# EAGLE library part ERF8-030-XX.X-X-DV (library con-samtec-er8)
ERF8 Series - Female
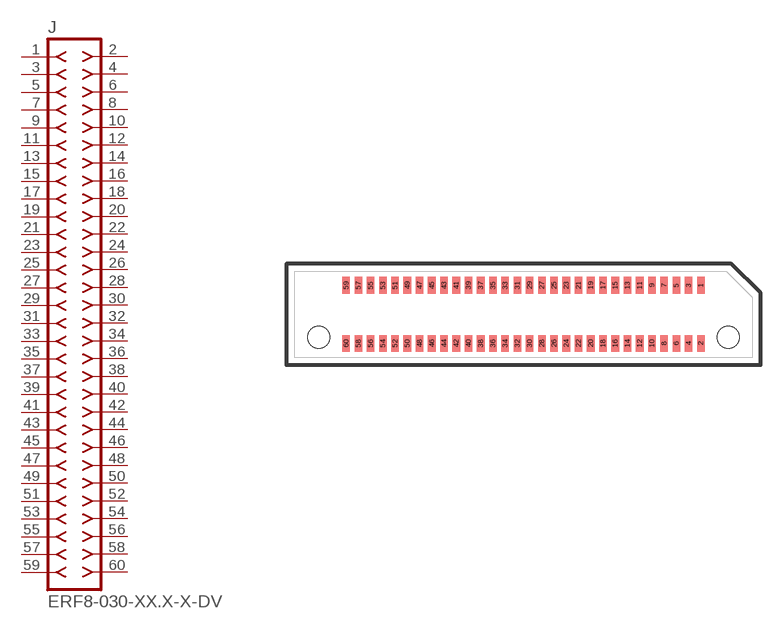
[diagram p15: symbol with the pads of ERF8-030-XX.X-X-DV; footprint ERF8-030-XX.X-X-DV]

Designator prefix J

## ERF8-030-XX.X-X-DV  [ERF8-030-XX.X-X-DV]
1  1  pas
2  2  pas
3  3  pas
4  4  pas
5  5  pas
6  6  pas
7  7  pas
8  8  pas
9  9  pas
10  10  pas
11  11  pas
12  12  pas
13  13  pas
14  14  pas
15  15  pas
16  16  pas
17  17  pas
18  18  pas
19  19  pas
20  20  pas
21  21  pas
22  22  pas
23  23  pas
24  24  pas
25  25  pas
26  26  pas
27  27  pas
28  28  pas
29  29  pas
30  30  pas
31  31  pas
32  32  pas
33  33  pas
34  34  pas
35  35  pas
36  36  pas
37  37  pas
38  38  pas
39  39  pas
40  40  pas
41  41  pas
42  42  pas
43  43  pas
44  44  pas
45  45  pas
46  46  pas
47  47  pas
48  48  pas
49  49  pas
50  50  pas
51  51  pas
52  52  pas
53  53  pas
54  54  pas
55  55  pas
56  56  pas
57  57  pas
58  58  pas
59  59  pas
60  60  pas

## Footprint ERF8-030-XX.X-X-DV (pad centres in mm)
0.8mm Edge Rate Terminal Assembly FEMALE, Double Vertical Row, 30 Position
smd 0.5 x 1.1: 1 11.6,1.9; 2 11.6,-1.9; 3 10.8,1.9; 4 10.8,-1.9; 5 10,1.9; 6 10,-1.9; 7 9.2,1.9; 8 9.2,-1.9; 9 8.4,1.9; 10 8.4,-1.9; 11 7.6,1.9; 12 7.6,-1.9; 13 6.8,1.9; 14 6.8,-1.9; 15 6,1.9; 16 6,-1.9; 17 5.2,1.9; 18 5.2,-1.9; 19 4.4,1.9; 20 4.4,-1.9; 21 3.6,1.9; 22 3.6,-1.9; 23 2.8,1.9; 24 2.8,-1.9; 25 2,1.9; 26 2,-1.9; 27 1.2,1.9; 28 1.2,-1.9; 29 0.4,1.9; 30 0.4,-1.9; 31 -0.4,1.9; 32 -0.4,-1.9; 33 -1.2,1.9; 34 -1.2,-1.9; 35 -2,1.9; 36 -2,-1.9; 37 -2.8,1.9; 38 -2.8,-1.9; 39 -3.6,1.9; 40 -3.6,-1.9; 41 -4.4,1.9; 42 -4.4,-1.9; 43 -5.2,1.9; 44 -5.2,-1.9; 45 -6,1.9; 46 -6,-1.9; 47 -6.8,1.9; 48 -6.8,-1.9; 49 -7.6,1.9; 50 -7.6,-1.9; 51 -8.4,1.9; 52 -8.4,-1.9; 53 -9.2,1.9; 54 -9.2,-1.9; 55 -10,1.9; 56 -10,-1.9; 57 -10.8,1.9; 58 -10.8,-1.9; 59 -11.6,1.9; 60 -11.6,-1.9
hole 1.45 at 13.4,-1.5
hole 1.45 at -13.4,-1.5